# EAGLE library part 87340-18_S (library con-molex-milli-grid)
RECEPTACAL
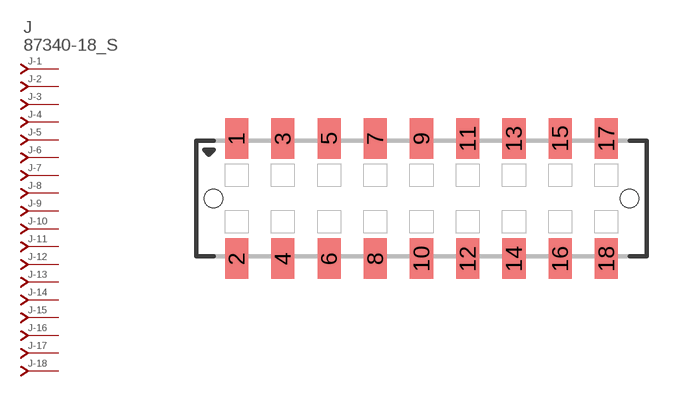
[diagram p333: symbol with the pads of 87340-18; footprint 87340-18]

Designator prefix J; gates -1=J-NV -2=J-N -3=J-N -4=J-N -5=J-N -6=J-N -7=J-N -8=J-N -9=J-N -10=J-N -11=J-N -12=J-N -13=J-N -14=J-N -15=J-N -16=J-N -17=J-N -18=J-N

## 87340-18_S  [87340-18]
1  -1:J  pas
2  -2:J  pas
3  -3:J  pas
4  -4:J  pas
5  -5:J  pas
6  -6:J  pas
7  -7:J  pas
8  -8:J  pas
9  -9:J  pas
10  -10:J  pas
11  -11:J  pas
12  -12:J  pas
13  -13:J  pas
14  -14:J  pas
15  -15:J  pas
16  -16:J  pas
17  -17:J  pas
18  -18:J  pas

## Footprint 87340-18 (pad centres in mm)
RECEPTACAL SMD Dual Row, Vertical, Low Profile
smd 1 x 1.75: 1 -8,2.6; 2 -8,-2.6; 3 -6,2.6; 4 -6,-2.6; 5 -4,2.6; 6 -4,-2.6; 7 -2,2.6; 8 -2,-2.6; 9 0,2.6; 10 0,-2.6; 11 2,2.6; 12 2,-2.6; 13 4,2.6; 14 4,-2.6; 15 6,2.6; 16 6,-2.6; 17 8,2.6; 18 8,-2.6
hole 0.8 at -9,0
hole 0.8 at 9,0